# Altium integrated library Inductive Balancer.IntLib: 13 symbols
Pins are listed as number, name and electrical type; pins without a type are passive.

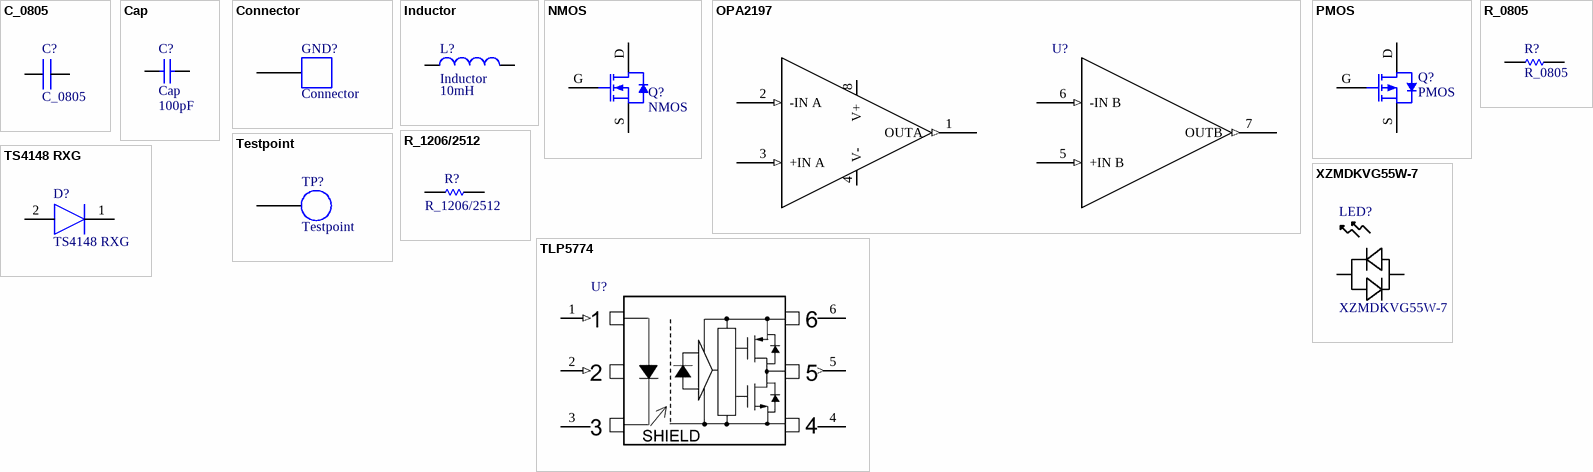
[diagram p0: symbols C_0805 to XZMDKVG55W-7]

## C_0805
designator C?
footprint CAPC2012X14N (Chip Capacitor, 2-Leads, Body 2.00x1.25mm, IPC Medium Density)
pins: 1, 2

## Cap
designator C?  value 100pF
Capacitor; Published: 8-Jun-2000; LatestRevisionDate: 17-Jul-2002; LatestRevisionNote: Re-released for DXP Platform.; PackageReference: RAD-0.3; Publisher: Altium Limited; PackageDescription: Radial Cap, Thru-Hole; 2 Leads; 0.3 in Pin Spacing
footprint RAD-0.3 (Radial Cap, Thru-Hole; 2 Leads; 0.3 in Pin Spacing)
simulation model CAP (Capacitor)
signal-integrity model Cap
pins: 1, 2

## Connector
designator GND?  (no BOM)
footprint connector_small
footprint connector_large
pins: 1

## Inductor
designator L?  value 10mH
Code_IEC: 1005; Published: 8-Jun-2000; LatestRevisionDate: 29-May-2009; LatestRevisionNote: IPC-7351 Footprint Added.; PackageReference: 0402-A; Publisher: Altium Limited; PackageDescription: Chip Inductor; Code_JEITA: 0402
footprint 0402-A (Chip Inductor, Body 1.0x0.5mm, IPC High Density)
footprint INDC1608L (Chip Inductor, Body 1.6x0.8mm, IPC High Density)
footprint 2029 (Chip Inductor, Body 2.0x1.2mm, IPC High Density)
footprint 0603 (Chip Inductor, Body 0.6x0.3mm, IPC High Density)
footprint INDC3216 (Chip Inductor, Body 3.2x1.6mm, IPC High Density)
footprint INDC4532 (Chip Inductor, Body 4.5x3.2mm, IPC High Density)
simulation model INDUCTOR (Inductor)
signal-integrity model Inductor
pins: 1, 2

## NMOS
designator Q?
footprint NMOS
footprint NMOS2
pins: D, G, S

## OPA2197
designator U?  (value not drawn)
footprint SOIC127P600X175-8N (SOIC, 8-Leads, Body 4.91x3.90mm, Pitch 1.27mm, IPC Medium Density)
pins: 1 OUTA (out), 2 -IN A (in), 3 +IN A (in), 4 V- (power), 5 +IN B (in), 6 -IN B (in), 7 OUTB (out), 8 V+ (power)

## PMOS
designator Q?
footprint PMOS
pins: D, G, S

## R_0805
designator R?
footprint RESC2012X06N (Chip Resistor, 2-Leads, Body 2.00x1.25mm, IPC Medium Density)
pins: 1, 2

## R_1206/2512
designator R?
footprint RESC6331X06N (Chip Resistor, 2-Leads, Body 6.30x3.10mm, IPC Medium Density)
pins: 1, 2

## Testpoint
designator TP?  (no BOM)
footprint testpoint
pins: 1

## TLP5774
designator U?  (value not drawn)
footprint SOIC127P1000X220-6N (SOIC, 6-Leads, Body 3.84x7.50mm, Pitch 1.27mm, IPC Medium Density)
pins: 1 Anode (in), 2 N.C. (in), 3 Cathode (power), 4 GND (power), 5 VO (out), 6 VCC (power)

## TS4148 RXG
designator D?
footprint DIOC3215X08N (Chip Diode, 2-Leads, Body 3.20x1.50mm, IPC Medium Density)
pins: 1 C, 2 A

## XZMDKVG55W-7
designator LED?
No Description Available; Manufacturer_Part_Number: XZMDKVG55W-4; Built_By: EMA_Matt; Vendor: SunLED; SourceLibrary: SunLED_2020-06-23; Type: DEV; Datasheet: https://www.sunledusa.com/products/spec/XZMDKVG55W-4.pdf; Copyright: Copyright (C) 2018 Accelerated Designs. All rights reserved; RefDes: RefDes
footprint DIOC3216X18N (Chip Diode, 2-Leads, Body 3.20x1.60mm, IPC Medium Density)
pins: 1, 2